# EAGLE library part 55917-14 (library con-molex-minifit)
DIP connector 2mm 14 way
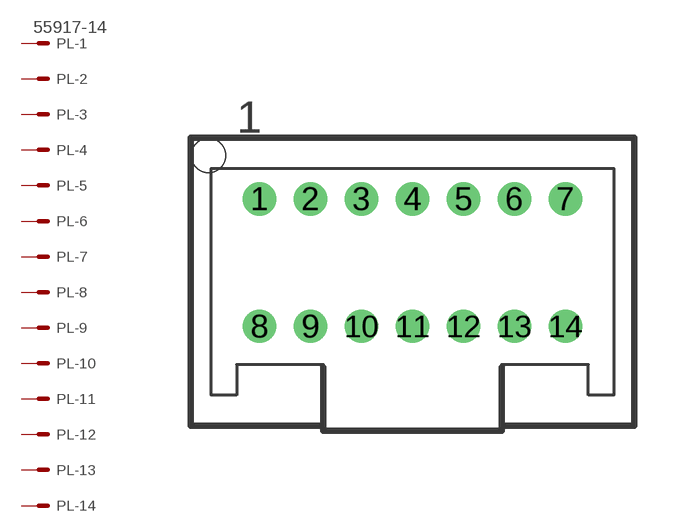
[diagram p13: symbol with the pads of 55917-14; footprint 55917-14]

Designator prefix PL; gates -1=MV -2=M -3=M -4=M -5=M -6=M -7=M -8=M -9=M -10=M -11=M -12=M -13=M -14=M

## 55917-14  [55917-14]
1  -1:S  pas
2  -2:S  pas
3  -3:S  pas
4  -4:S  pas
5  -5:S  pas
6  -6:S  pas
7  -7:S  pas
8  -8:S  pas
9  -9:S  pas
10  -10:S  pas
11  -11:S  pas
12  -12:S  pas
13  -13:S  pas
14  -14:S  pas

## Footprint 55917-14 (pad centres in mm)
DIP connector 2mm 14 way
drill 0.8 round: 1 -6,2.5; 2 -4,2.5; 3 -2,2.5; 4 0,2.5; 5 2,2.5; 6 4,2.5; 7 6,2.5; 8 -6,-2.5; 9 -4,-2.5; 10 -2,-2.5; 11 0,-2.5; 12 2,-2.5; 13 4,-2.5; 14 6,-2.5
hole 1.35 at -8,4.2